# Altium footprint library CUI PJ-068B-SMT.PCBLIB: 1 footprints
Each footprint in its own frame and in the unit in brackets; x right, y up, seen from the top. Pads: shape width x height; smd on the part's side, far side on the other; paste and mask are expansions set on the pad; w line width, h text height; cw(c..) or ccw(c..) is an arc to the next point about the centre after c.
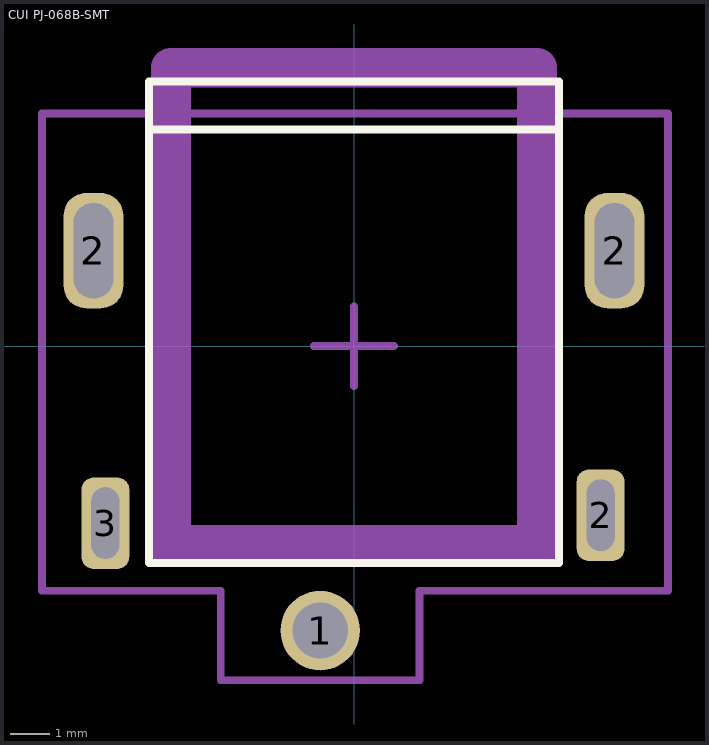
[diagram p0: the footprint, top view; thin cyan lines are the x and y axes]

## CUI PJ-068B-SMT [mm] "Mid Mount DC Power Jack"
height 5.45
pads (5):
  round 2 hole 1.4 unplated: 1(-0.85,-7.15)
  rrect75% 1.5x2.9 hole 1 slot 2.4 at 90 deg unplated: 2(-6.55,2.4) 2(6.55,2.4)
  rrect50% 1.2x2.3 hole 0.7 slot 1.8 at 90 deg unplated: 2(6.2,-4.25) 3(-6.25,-4.45)
Top Overlay:
  lines w0.2: -5.15,5.45 -0.85,5.45 5.15,5.45 ; -5.15,5.45 -5.15,-5.45 5.15,-5.45 5.15,5.45 ; -5.15,5.45 -5.15,6.65 5.15,6.65 5.15,5.45
Mechanical 15:
  lines w0.2: -1,0 1,0 ; 0,-1 0,1 ; -7.85,-6.15 -3.35,-6.15 -3.35,-8.4 -0.85,-8.4 1.65,-8.4 1.65,-6.15 7.9,-6.15 7.9,5.85 -7.85,5.85 -7.85,-6.15
Milling:
  lines w0.6: -4.8,-4.5 -4.8,-5.2 -4,-5.2 ; 4,-5.2 4.8,-5.2 4.8,-4.5
  lines w1: -4.6,-5 4.6,-5 4.6,7 -4.6,7 -4.6,-5
3D body "pj-068b-smt.STEP": height 5.45, standoff -3.65, extent -6.55,-7.7 6.55,6.6